# Altium schematic symbol library Connectors.SchLib: 2 symbols
Pins are listed as number, name and electrical type; pins without a type are passive.

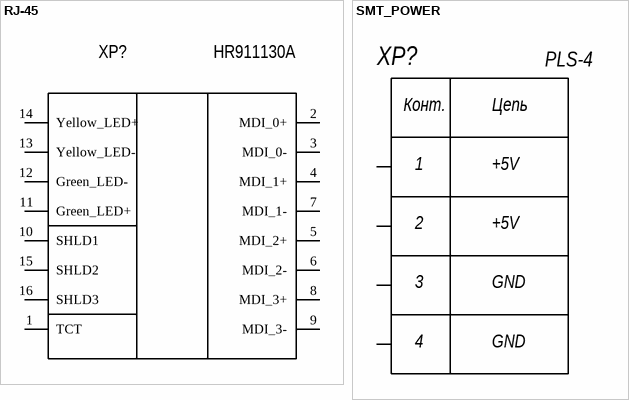
[diagram p0: symbols RJ-45 to SMT_POWER]

## RJ-45
designator XP?, comment HR911130A
Разъём RJ45 с встроенными трансформаторами и индикацией, 10/100Base-T Ethernet (HR911130A)
pins: 1 TCT, 2 MDI_0+, 3 MDI_0-, 4 MDI_1+, 5 MDI_2+, 6 MDI_2-, 7 MDI_1-, 8 MDI_3+, 9 MDI_3-, 10 SHLD1, 11 Green_LED+, 12 Green_LED-, 13 Yellow_LED-, 14 Yellow_LED+, 15 SHLD2, 16 SHLD3

## SMT_POWER
designator XP?, comment PLS-4
SMT-разъём для связи платы ПП с периферийными устройствами
pins: 1, 2, 3, 4
text: Конт.; Цепь; +5V; GND